# Altium footprint library Connector_PinHeader_1.27mm.PcbLib: 278 footprints (part 8 of 18)
Each footprint in its own frame and in the unit in brackets; x right, y up, seen from the top. Pads: shape width x height; smd on the part's side, far side on the other; paste and mask are expansions set on the pad; w line width, h text height; cw(c..) or ccw(c..) is an arc to the next point about the centre after c.
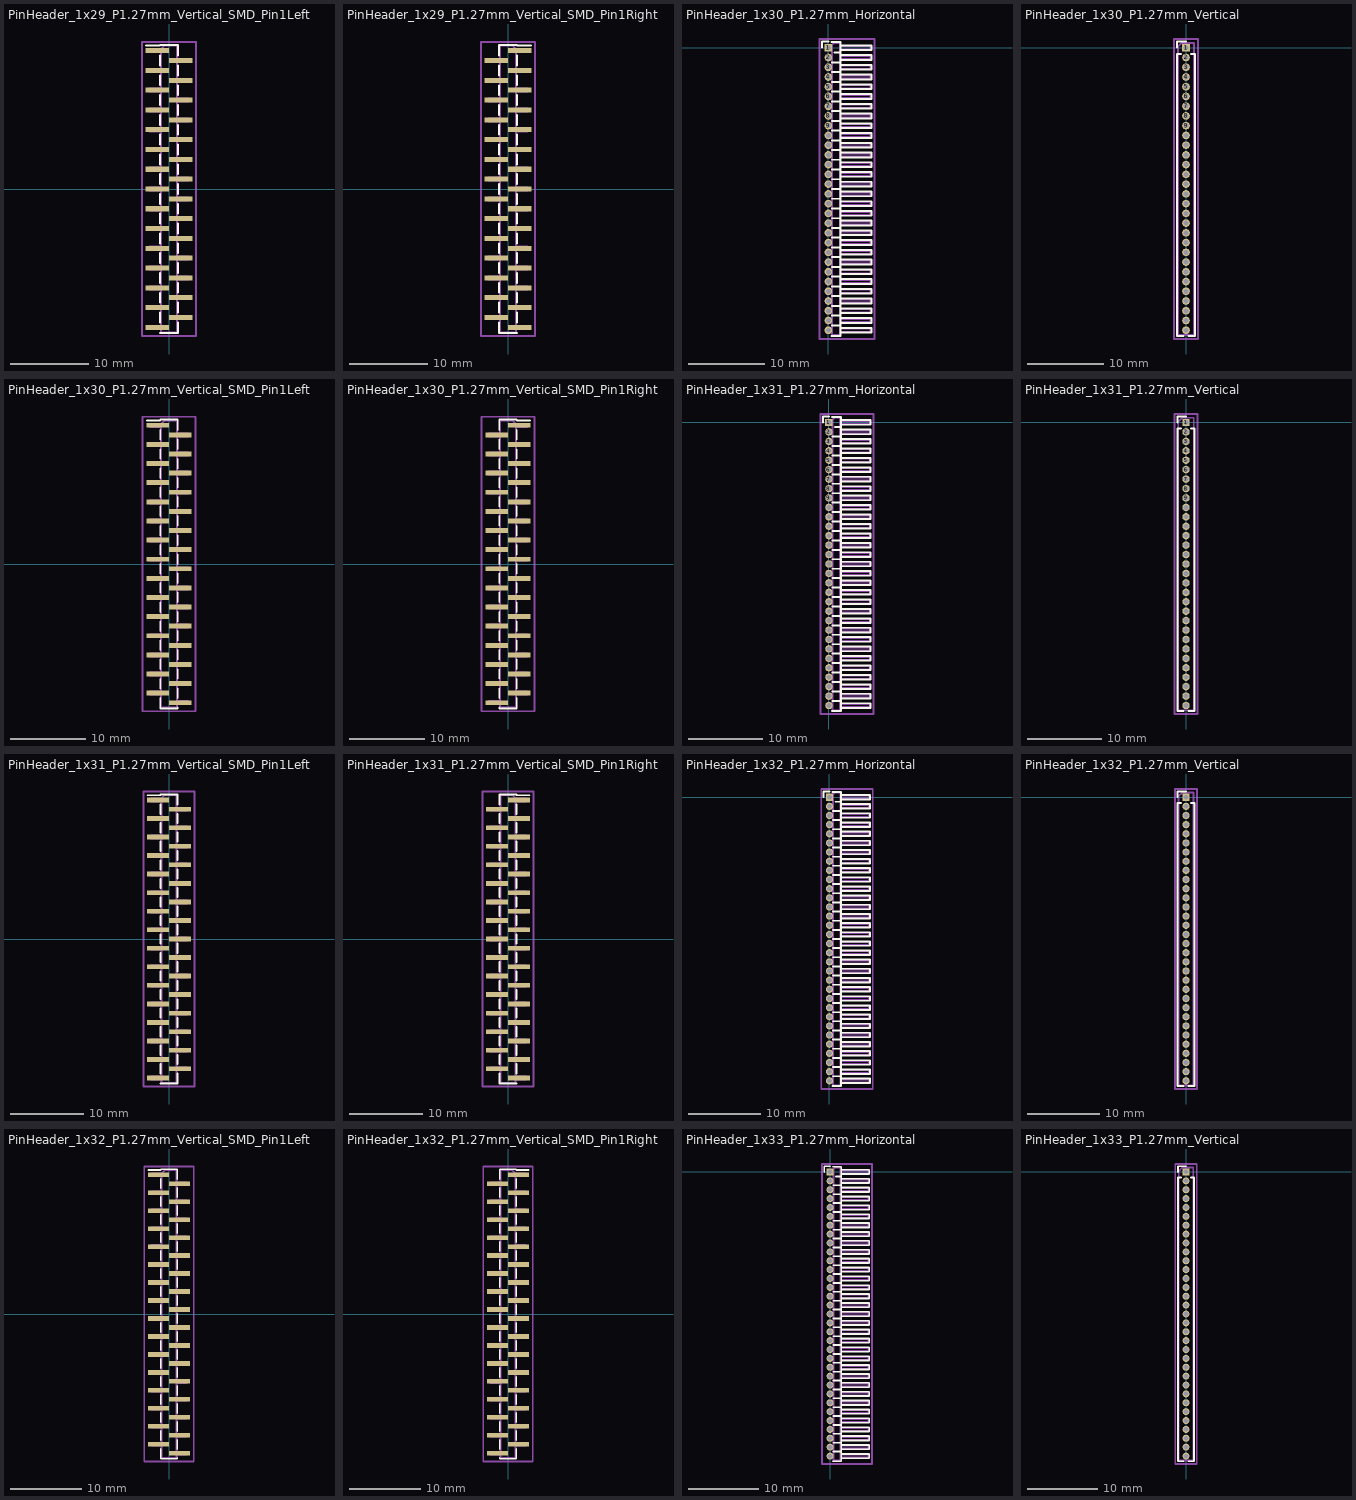
[diagram p7: the footprints below, top view; thin cyan lines are the x and y axes]

## PinHeader_1x29_P1.27mm_Vertical_SMD_Pin1Left [mm]
pads (29):
  rect 3x0.65 smd: 1(-1.5,17.78) 2(1.5,16.51) 3(-1.5,15.24) 4(1.5,13.97) 5(-1.5,12.7) 6(1.5,11.43) 7(-1.5,10.16) 8(1.5,8.89) 9(-1.5,7.62) 10(1.5,6.35) 11(-1.5,5.08) 12(1.5,3.81) 13(-1.5,2.54) 14(1.5,1.27) 15(-1.5,0) 16(1.5,-1.27) 17(-1.5,-2.54) 18(1.5,-3.81) 19(-1.5,-5.08) 20(1.5,-6.35) 21(-1.5,-7.62) 22(1.5,-8.89) 23(-1.5,-10.16) 24(1.5,-11.43) 25(-1.5,-12.7) 26(1.5,-13.97) 27(-1.5,-15.24) 28(1.5,-16.51) 29(-1.5,-17.78)
F.SilkS:
  lines w0.254: -2.94,18.415 -1.16,18.415 -1.16,18.525 1.16,18.525 ; -1.16,-18.525 1.16,-18.525 ; -1.16,-17.145 -1.16,-15.875 ; -1.16,-14.605 -1.16,-13.335 ; -1.16,-12.065 -1.16,-10.795 ; -1.16,-9.525 -1.16,-8.255 ; -1.16,-6.985 -1.16,-5.715 ; -1.16,-4.445 -1.16,-3.175 ; -1.16,-1.905 -1.16,-0.635 ; -1.16,0.635 -1.16,1.905 ; -1.16,3.175 -1.16,4.445 ; -1.16,5.715 -1.16,6.985 ; -1.16,8.255 -1.16,9.525 ; -1.16,10.795 -1.16,12.065 ; -1.16,13.335 -1.16,14.605 ; -1.16,15.875 -1.16,17.145 ; 1.16,-18.415 1.16,-18.525 ; 1.16,-17.145 1.16,-18.525 ; 1.16,-15.875 1.16,-14.605 ; 1.16,-13.335 1.16,-12.065 ; 1.16,-10.795 1.16,-9.525 ; 1.16,-8.255 1.16,-6.985 ; 1.16,-5.715 1.16,-4.445 ; 1.16,-3.175 1.16,-1.905 ; 1.16,-0.635 1.16,0.635 ; 1.16,1.905 1.16,3.175 ; 1.16,4.445 1.16,5.715 ; 1.16,6.985 1.16,8.255 ; 1.16,9.525 1.16,10.795 ; 1.16,12.065 1.16,13.335 ; 1.16,14.605 1.16,15.875 ; 1.16,17.145 1.16,18.415
Top Assembly:
  lines w0.254: -1.05,-17.98 -2.5,-17.98 -2.5,-17.58 -1.05,-17.58 ; -1.05,-15.44 -2.5,-15.44 -2.5,-15.04 -1.05,-15.04 ; -1.05,-12.9 -2.5,-12.9 -2.5,-12.5 -1.05,-12.5 ; -1.05,-10.36 -2.5,-10.36 -2.5,-9.96 -1.05,-9.96 ; -1.05,-7.82 -2.5,-7.82 -2.5,-7.42 -1.05,-7.42 ; -1.05,-5.28 -2.5,-5.28 -2.5,-4.88 -1.05,-4.88 ; -1.05,-2.74 -2.5,-2.74 -2.5,-2.34 -1.05,-2.34 ; -1.05,-0.2 -2.5,-0.2 -2.5,0.2 -1.05,0.2 ; -1.05,2.34 -2.5,2.34 -2.5,2.74 -1.05,2.74 ; -1.05,4.88 -2.5,4.88 -2.5,5.28 -1.05,5.28 ; -1.05,7.42 -2.5,7.42 -2.5,7.82 -1.05,7.82 ; -1.05,9.96 -2.5,9.96 -2.5,10.36 -1.05,10.36 ; -1.05,12.5 -2.5,12.5 -2.5,12.9 -1.05,12.9 ; -1.05,15.04 -2.5,15.04 -2.5,15.44 -1.05,15.44 ; -1.05,17.58 -2.5,17.58 -2.5,17.98 -1.05,17.98 ; 1.05,-16.71 2.5,-16.71 2.5,-16.31 1.05,-16.31 ; 1.05,-14.17 2.5,-14.17 2.5,-13.77 1.05,-13.77 ; 1.05,-11.63 2.5,-11.63 2.5,-11.23 1.05,-11.23 ; 1.05,-9.09 2.5,-9.09 2.5,-8.69 1.05,-8.69 ; 1.05,-6.55 2.5,-6.55 2.5,-6.15 1.05,-6.15 ; 1.05,-4.01 2.5,-4.01 2.5,-3.61 1.05,-3.61 ; 1.05,-1.47 2.5,-1.47 2.5,-1.07 1.05,-1.07 ; 1.05,1.07 2.5,1.07 2.5,1.47 1.05,1.47 ; 1.05,3.61 2.5,3.61 2.5,4.01 1.05,4.01 ; 1.05,6.15 2.5,6.15 2.5,6.55 1.05,6.55 ; 1.05,8.69 2.5,8.69 2.5,9.09 1.05,9.09 ; 1.05,11.23 2.5,11.23 2.5,11.63 1.05,11.63 ; 1.05,13.77 2.5,13.77 2.5,14.17 1.05,14.17 ; 1.05,16.31 2.5,16.31 2.5,16.71 1.05,16.71 ; -1.05,17.98 -1.05,-18.415 1.05,-18.415 1.05,18.415 -0.615,18.415 -1.05,17.98
  text "'.Designator'" at 0.84,-4.047 h1
Top Courtyard:
  lines w0.254: -3.5,-18.92 3.5,-18.92 3.5,18.92 -3.5,18.92 -3.5,-18.92
Top Designator:
  text ".Designator" at -7.618,-0.508 h1.52

## PinHeader_1x29_P1.27mm_Vertical_SMD_Pin1Right [mm]
pads (29):
  rect 3x0.65 smd: 1(1.5,17.78) 2(-1.5,16.51) 3(1.5,15.24) 4(-1.5,13.97) 5(1.5,12.7) 6(-1.5,11.43) 7(1.5,10.16) 8(-1.5,8.89) 9(1.5,7.62) 10(-1.5,6.35) 11(1.5,5.08) 12(-1.5,3.81) 13(1.5,2.54) 14(-1.5,1.27) 15(1.5,0) 16(-1.5,-1.27) 17(1.5,-2.54) 18(-1.5,-3.81) 19(1.5,-5.08) 20(-1.5,-6.35) 21(1.5,-7.62) 22(-1.5,-8.89) 23(1.5,-10.16) 24(-1.5,-11.43) 25(1.5,-12.7) 26(-1.5,-13.97) 27(1.5,-15.24) 28(-1.5,-16.51) 29(1.5,-17.78)
F.SilkS:
  lines w0.254: -1.16,-18.415 -1.16,-18.525 ; -1.16,-17.145 -1.16,-18.525 ; -1.16,-15.875 -1.16,-14.605 ; -1.16,-13.335 -1.16,-12.065 ; -1.16,-10.795 -1.16,-9.525 ; -1.16,-8.255 -1.16,-6.985 ; -1.16,-5.715 -1.16,-4.445 ; -1.16,-3.175 -1.16,-1.905 ; -1.16,-0.635 -1.16,0.635 ; -1.16,1.905 -1.16,3.175 ; -1.16,4.445 -1.16,5.715 ; -1.16,6.985 -1.16,8.255 ; -1.16,9.525 -1.16,10.795 ; -1.16,12.065 -1.16,13.335 ; -1.16,14.605 -1.16,15.875 ; -1.16,18.525 1.16,18.525 1.16,18.415 2.94,18.415 ; 1.16,-18.525 -1.16,-18.525 ; 1.16,-17.145 1.16,-15.875 ; 1.16,-14.605 1.16,-13.335 ; 1.16,-12.065 1.16,-10.795 ; 1.16,-9.525 1.16,-8.255 ; 1.16,-6.985 1.16,-5.715 ; 1.16,-4.445 1.16,-3.175 ; 1.16,-1.905 1.16,-0.635 ; 1.16,0.635 1.16,1.905 ; 1.16,3.175 1.16,4.445 ; 1.16,5.715 1.16,6.985 ; 1.16,8.255 1.16,9.525 ; 1.16,10.795 1.16,12.065 ; 1.16,13.335 1.16,14.605 ; 1.16,15.875 1.16,17.145 ; -1.16,17.145 -1.16,18.415 -1.16,17.145
Top Assembly:
  lines w0.254: -1.05,-16.71 -2.5,-16.71 -2.5,-16.31 -1.05,-16.31 ; -1.05,-14.17 -2.5,-14.17 -2.5,-13.77 -1.05,-13.77 ; -1.05,-11.63 -2.5,-11.63 -2.5,-11.23 -1.05,-11.23 ; -1.05,-9.09 -2.5,-9.09 -2.5,-8.69 -1.05,-8.69 ; -1.05,-6.55 -2.5,-6.55 -2.5,-6.15 -1.05,-6.15 ; -1.05,-4.01 -2.5,-4.01 -2.5,-3.61 -1.05,-3.61 ; -1.05,-1.47 -2.5,-1.47 -2.5,-1.07 -1.05,-1.07 ; -1.05,1.07 -2.5,1.07 -2.5,1.47 -1.05,1.47 ; -1.05,3.61 -2.5,3.61 -2.5,4.01 -1.05,4.01 ; -1.05,6.15 -2.5,6.15 -2.5,6.55 -1.05,6.55 ; -1.05,8.69 -2.5,8.69 -2.5,9.09 -1.05,9.09 ; -1.05,11.23 -2.5,11.23 -2.5,11.63 -1.05,11.63 ; -1.05,13.77 -2.5,13.77 -2.5,14.17 -1.05,14.17 ; -1.05,16.31 -2.5,16.31 -2.5,16.71 -1.05,16.71 ; 1.05,-17.98 2.5,-17.98 2.5,-17.58 1.05,-17.58 ; 1.05,-15.44 2.5,-15.44 2.5,-15.04 1.05,-15.04 ; 1.05,-12.9 2.5,-12.9 2.5,-12.5 1.05,-12.5 ; 1.05,-10.36 2.5,-10.36 2.5,-9.96 1.05,-9.96 ; 1.05,-7.82 2.5,-7.82 2.5,-7.42 1.05,-7.42 ; 1.05,-5.28 2.5,-5.28 2.5,-4.88 1.05,-4.88 ; 1.05,-2.74 2.5,-2.74 2.5,-2.34 1.05,-2.34 ; 1.05,-0.2 2.5,-0.2 2.5,0.2 1.05,0.2 ; 1.05,2.34 2.5,2.34 2.5,2.74 1.05,2.74 ; 1.05,4.88 2.5,4.88 2.5,5.28 1.05,5.28 ; 1.05,7.42 2.5,7.42 2.5,7.82 1.05,7.82 ; 1.05,9.96 2.5,9.96 2.5,10.36 1.05,10.36 ; 1.05,12.5 2.5,12.5 2.5,12.9 1.05,12.9 ; 1.05,15.04 2.5,15.04 2.5,15.44 1.05,15.44 ; 1.05,17.58 2.5,17.58 2.5,17.98 1.05,17.98 ; 1.05,17.98 1.05,-18.415 -1.05,-18.415 -1.05,18.415 0.615,18.415 1.05,17.98
  text "'.Designator'" at 0.84,-4.047 h1
Top Courtyard:
  lines w0.254: -3.5,-18.92 3.5,-18.92 3.5,18.92 -3.5,18.92 -3.5,-18.92
Top Designator:
  text ".Designator" at -7.618,-0.508 h1.52

## PinHeader_1x30_P1.27mm_Horizontal [mm]
pads (30):
  rect 1x1 hole 0.65: 1(0,0)
  round 1 hole 0.65: 2(0,-1.27) 3(0,-2.54) 4(0,-3.81) 5(0,-5.08) 6(0,-6.35) 7(0,-7.62) 8(0,-8.89) 9(0,-10.16) 10(0,-11.43) 11(0,-12.7) 12(0,-13.97) 13(0,-15.24) 14(0,-16.51) 15(0,-17.78) 16(0,-19.05) 17(0,-20.32) 18(0,-21.59) 19(0,-22.86) 20(0,-24.13) 21(0,-25.4) 22(0,-26.67) 23(0,-27.94) 24(0,-29.21) 25(0,-30.48) 26(0,-31.75) 27(0,-33.02) 28(0,-34.29) 29(0,-35.56) 30(0,-36.83)
F.SilkS:
  lines w0.254: -0.81,0 -0.81,0.81 0,0.81 ; 0.39,-37.575 1.61,-37.575 1.61,0.745 0.39,0.745 ; 0.503,-36.195 1.61,-36.195 ; 0.503,-34.925 1.61,-34.925 ; 0.503,-33.655 1.61,-33.655 ; 0.503,-32.385 1.61,-32.385 ; 0.503,-31.115 1.61,-31.115 ; 0.503,-29.845 1.61,-29.845 ; 0.503,-28.575 1.61,-28.575 ; 0.503,-27.305 1.61,-27.305 ; 0.503,-26.035 1.61,-26.035 ; 0.503,-24.765 1.61,-24.765 ; 0.503,-23.495 1.61,-23.495 ; 0.503,-22.225 1.61,-22.225 ; 0.503,-20.955 1.61,-20.955 ; 0.503,-19.685 1.61,-19.685 ; 0.503,-18.415 1.61,-18.415 ; 0.503,-17.145 1.61,-17.145 ; 0.503,-15.875 1.61,-15.875 ; 0.503,-14.605 1.61,-14.605 ; 0.503,-13.335 1.61,-13.335 ; 0.503,-12.065 1.61,-12.065 ; 0.503,-10.795 1.61,-10.795 ; 0.503,-9.525 1.61,-9.525 ; 0.503,-8.255 1.61,-8.255 ; 0.503,-6.985 1.61,-6.985 ; 0.503,-5.715 1.61,-5.715 ; 0.503,-4.445 1.61,-4.445 ; 0.503,-3.175 1.61,-3.175 ; 0.503,-1.905 1.61,-1.905 ; 0.81,-0.635 1.61,-0.635 ; 1.61,-37.14 5.61,-37.14 5.61,-36.52 1.61,-36.52 ; 1.61,-35.87 5.61,-35.87 5.61,-35.25 1.61,-35.25 ; 1.61,-34.6 5.61,-34.6 5.61,-33.98 1.61,-33.98 ; 1.61,-33.33 5.61,-33.33 5.61,-32.71 1.61,-32.71 ; 1.61,-32.06 5.61,-32.06 5.61,-31.44 1.61,-31.44 ; 1.61,-30.79 5.61,-30.79 5.61,-30.17 1.61,-30.17 ; 1.61,-29.52 5.61,-29.52 5.61,-28.9 1.61,-28.9 ; 1.61,-28.25 5.61,-28.25 5.61,-27.63 1.61,-27.63 ; 1.61,-26.98 5.61,-26.98 5.61,-26.36 1.61,-26.36 ; 1.61,-25.71 5.61,-25.71 5.61,-25.09 1.61,-25.09 ; 1.61,-24.44 5.61,-24.44 5.61,-23.82 1.61,-23.82 ; 1.61,-23.17 5.61,-23.17 5.61,-22.55 1.61,-22.55 ; 1.61,-21.9 5.61,-21.9 5.61,-21.28 1.61,-21.28 ; 1.61,-20.63 5.61,-20.63 5.61,-20.01 1.61,-20.01 ; 1.61,-19.36 5.61,-19.36 5.61,-18.74 1.61,-18.74 ; 1.61,-18.09 5.61,-18.09 5.61,-17.47 1.61,-17.47 ; 1.61,-16.82 5.61,-16.82 5.61,-16.2 1.61,-16.2 ; 1.61,-15.55 5.61,-15.55 5.61,-14.93 1.61,-14.93 ; 1.61,-14.28 5.61,-14.28 5.61,-13.66 1.61,-13.66 ; 1.61,-13.01 5.61,-13.01 5.61,-12.39 1.61,-12.39 ; 1.61,-11.74 5.61,-11.74 5.61,-11.12 1.61,-11.12 ; 1.61,-10.47 5.61,-10.47 5.61,-9.85 1.61,-9.85 ; 1.61,-9.2 5.61,-9.2 5.61,-8.58 1.61,-8.58 ; 1.61,-7.93 5.61,-7.93 5.61,-7.31 1.61,-7.31 ; 1.61,-6.66 5.61,-6.66 5.61,-6.04 1.61,-6.04 ; 1.61,-5.39 5.61,-5.39 5.61,-4.77 1.61,-4.77 ; 1.61,-4.12 5.61,-4.12 5.61,-3.5 1.61,-3.5 ; 1.61,-2.85 5.61,-2.85 5.61,-2.23 1.61,-2.23 ; 1.61,-1.58 5.61,-1.58 5.61,-0.96 1.61,-0.96 ; 1.61,-0.31 5.61,-0.31 5.61,0.31 1.61,0.31 1.61,-0.31
Top Assembly:
  drawing of 185 lines, arcs and shapes, not listed
  text "'.Designator'" at 1.504,-20.843 h0.6
Top Courtyard:
  lines w0.254: -1.14,-37.97 6,-37.97 6,1.14 -1.14,1.14 -1.14,-37.97
Top Designator:
  text ".Designator" at -5.188,-18.923 h1.52

## PinHeader_1x30_P1.27mm_Vertical [mm]
pads (30):
  rect 1x1 hole 0.65: 1(0,0)
  round 1 hole 0.65: 2(0,-1.27) 3(0,-2.54) 4(0,-3.81) 5(0,-5.08) 6(0,-6.35) 7(0,-7.62) 8(0,-8.89) 9(0,-10.16) 10(0,-11.43) 11(0,-12.7) 12(0,-13.97) 13(0,-15.24) 14(0,-16.51) 15(0,-17.78) 16(0,-19.05) 17(0,-20.32) 18(0,-21.59) 19(0,-22.86) 20(0,-24.13) 21(0,-25.4) 22(0,-26.67) 23(0,-27.94) 24(0,-29.21) 25(0,-30.48) 26(0,-31.75) 27(0,-33.02) 28(0,-34.29) 29(0,-35.56) 30(0,-36.83)
F.SilkS:
  lines w0.254: -1.16,0 -1.16,0.81 0,0.81 ; -0.667,-0.81 -1.16,-0.81 -1.16,-37.575 -0.318,-37.575 ; 0.318,-37.575 1.16,-37.575 1.16,-0.81 0.667,-0.81
Top Assembly:
  lines w0.254: -1.05,-37.465 1.05,-37.465 1.05,0.635 -0.525,0.635 -1.05,0.11 -1.05,-37.465
  text "'.Designator'" at 0.84,-22.462 h1
Top Courtyard:
  lines w0.254: -1.55,-37.97 1.55,-37.97 1.55,1.14 -1.55,1.14 -1.55,-37.97
Top Designator:
  text ".Designator" at -7.618,-18.923 h1.52

## PinHeader_1x30_P1.27mm_Vertical_SMD_Pin1Left [mm]
pads (30):
  rect 3x0.65 smd: 1(-1.5,18.415) 2(1.5,17.145) 3(-1.5,15.875) 4(1.5,14.605) 5(-1.5,13.335) 6(1.5,12.065) 7(-1.5,10.795) 8(1.5,9.525) 9(-1.5,8.255) 10(1.5,6.985) 11(-1.5,5.715) 12(1.5,4.445) 13(-1.5,3.175) 14(1.5,1.905) 15(-1.5,0.635) 16(1.5,-0.635) 17(-1.5,-1.905) 18(1.5,-3.175) 19(-1.5,-4.445) 20(1.5,-5.715) 21(-1.5,-6.985) 22(1.5,-8.255) 23(-1.5,-9.525) 24(1.5,-10.795) 25(-1.5,-12.065) 26(1.5,-13.335) 27(-1.5,-14.605) 28(1.5,-15.875) 29(-1.5,-17.145) 30(1.5,-18.415)
F.SilkS:
  lines w0.254: -2.94,19.05 -1.16,19.05 -1.16,19.16 1.16,19.16 ; -1.16,-17.78 -1.16,-19.16 1.16,-19.16 1.16,-19.05 ; -1.16,-16.51 -1.16,-15.24 ; -1.16,-13.97 -1.16,-12.7 ; -1.16,-11.43 -1.16,-10.16 ; -1.16,-8.89 -1.16,-7.62 ; -1.16,-6.35 -1.16,-5.08 ; -1.16,-3.81 -1.16,-2.54 ; -1.16,-1.27 -1.16,0 ; -1.16,1.27 -1.16,2.54 ; -1.16,3.81 -1.16,5.08 ; -1.16,6.35 -1.16,7.62 ; -1.16,8.89 -1.16,10.16 ; -1.16,11.43 -1.16,12.7 ; -1.16,13.97 -1.16,15.24 ; -1.16,16.51 -1.16,17.78 ; 1.16,-17.78 1.16,-16.51 ; 1.16,-15.24 1.16,-13.97 ; 1.16,-12.7 1.16,-11.43 ; 1.16,-10.16 1.16,-8.89 ; 1.16,-7.62 1.16,-6.35 ; 1.16,-5.08 1.16,-3.81 ; 1.16,-2.54 1.16,-1.27 ; 1.16,0 1.16,1.27 ; 1.16,2.54 1.16,3.81 ; 1.16,5.08 1.16,6.35 ; 1.16,7.62 1.16,8.89 ; 1.16,10.16 1.16,11.43 ; 1.16,12.7 1.16,13.97 ; 1.16,15.24 1.16,16.51 ; 1.16,17.78 1.16,19.05
Top Assembly:
  lines w0.254: -1.05,-17.345 -2.5,-17.345 -2.5,-16.945 -1.05,-16.945 ; -1.05,-14.805 -2.5,-14.805 -2.5,-14.405 -1.05,-14.405 ; -1.05,-12.265 -2.5,-12.265 -2.5,-11.865 -1.05,-11.865 ; -1.05,-9.725 -2.5,-9.725 -2.5,-9.325 -1.05,-9.325 ; -1.05,-7.185 -2.5,-7.185 -2.5,-6.785 -1.05,-6.785 ; -1.05,-4.645 -2.5,-4.645 -2.5,-4.245 -1.05,-4.245 ; -1.05,-2.105 -2.5,-2.105 -2.5,-1.705 -1.05,-1.705 ; -1.05,0.435 -2.5,0.435 -2.5,0.835 -1.05,0.835 ; -1.05,2.975 -2.5,2.975 -2.5,3.375 -1.05,3.375 ; -1.05,5.515 -2.5,5.515 -2.5,5.915 -1.05,5.915 ; -1.05,8.055 -2.5,8.055 -2.5,8.455 -1.05,8.455 ; -1.05,10.595 -2.5,10.595 -2.5,10.995 -1.05,10.995 ; -1.05,13.135 -2.5,13.135 -2.5,13.535 -1.05,13.535 ; -1.05,15.675 -2.5,15.675 -2.5,16.075 -1.05,16.075 ; -1.05,18.215 -2.5,18.215 -2.5,18.615 -1.05,18.615 ; 1.05,-18.615 2.5,-18.615 2.5,-18.215 1.05,-18.215 ; 1.05,-16.075 2.5,-16.075 2.5,-15.675 1.05,-15.675 ; 1.05,-13.535 2.5,-13.535 2.5,-13.135 1.05,-13.135 ; 1.05,-10.995 2.5,-10.995 2.5,-10.595 1.05,-10.595 ; 1.05,-8.455 2.5,-8.455 2.5,-8.055 1.05,-8.055 ; 1.05,-5.915 2.5,-5.915 2.5,-5.515 1.05,-5.515 ; 1.05,-3.375 2.5,-3.375 2.5,-2.975 1.05,-2.975 ; 1.05,-0.835 2.5,-0.835 2.5,-0.435 1.05,-0.435 ; 1.05,1.705 2.5,1.705 2.5,2.105 1.05,2.105 ; 1.05,4.245 2.5,4.245 2.5,4.645 1.05,4.645 ; 1.05,6.785 2.5,6.785 2.5,7.185 1.05,7.185 ; 1.05,9.325 2.5,9.325 2.5,9.725 1.05,9.725 ; 1.05,11.865 2.5,11.865 2.5,12.265 1.05,12.265 ; 1.05,14.405 2.5,14.405 2.5,14.805 1.05,14.805 ; 1.05,16.945 2.5,16.945 2.5,17.345 1.05,17.345 ; -1.05,18.615 -1.05,-19.05 1.05,-19.05 1.05,19.05 -0.615,19.05 -1.05,18.615
  text "'.Designator'" at 0.84,-4.047 h1
Top Courtyard:
  lines w0.254: -3.5,-19.55 3.5,-19.55 3.5,19.55 -3.5,19.55 -3.5,-19.55
Top Designator:
  text ".Designator" at -7.618,-0.508 h1.52

## PinHeader_1x30_P1.27mm_Vertical_SMD_Pin1Right [mm]
pads (30):
  rect 3x0.65 smd: 1(1.5,18.415) 2(-1.5,17.145) 3(1.5,15.875) 4(-1.5,14.605) 5(1.5,13.335) 6(-1.5,12.065) 7(1.5,10.795) 8(-1.5,9.525) 9(1.5,8.255) 10(-1.5,6.985) 11(1.5,5.715) 12(-1.5,4.445) 13(1.5,3.175) 14(-1.5,1.905) 15(1.5,0.635) 16(-1.5,-0.635) 17(1.5,-1.905) 18(-1.5,-3.175) 19(1.5,-4.445) 20(-1.5,-5.715) 21(1.5,-6.985) 22(-1.5,-8.255) 23(1.5,-9.525) 24(-1.5,-10.795) 25(1.5,-12.065) 26(-1.5,-13.335) 27(1.5,-14.605) 28(-1.5,-15.875) 29(1.5,-17.145) 30(-1.5,-18.415)
F.SilkS:
  lines w0.254: -1.16,-19.05 -1.16,-19.16 1.16,-19.16 1.16,-17.78 ; -1.16,-17.78 -1.16,-16.51 ; -1.16,-15.24 -1.16,-13.97 ; -1.16,-12.7 -1.16,-11.43 ; -1.16,-10.16 -1.16,-8.89 ; -1.16,-7.62 -1.16,-6.35 ; -1.16,-5.08 -1.16,-3.81 ; -1.16,-2.54 -1.16,-1.27 ; -1.16,0 -1.16,1.27 ; -1.16,2.54 -1.16,3.81 ; -1.16,5.08 -1.16,6.35 ; -1.16,7.62 -1.16,8.89 ; -1.16,10.16 -1.16,11.43 ; -1.16,12.7 -1.16,13.97 ; -1.16,15.24 -1.16,16.51 ; -1.16,19.16 1.16,19.16 1.16,19.05 2.94,19.05 ; 1.16,-16.51 1.16,-15.24 ; 1.16,-13.97 1.16,-12.7 ; 1.16,-11.43 1.16,-10.16 ; 1.16,-8.89 1.16,-7.62 ; 1.16,-6.35 1.16,-5.08 ; 1.16,-3.81 1.16,-2.54 ; 1.16,-1.27 1.16,0 ; 1.16,1.27 1.16,2.54 ; 1.16,3.81 1.16,5.08 ; 1.16,6.35 1.16,7.62 ; 1.16,8.89 1.16,10.16 ; 1.16,11.43 1.16,12.7 ; 1.16,13.97 1.16,15.24 ; 1.16,16.51 1.16,17.78 ; -1.16,17.78 -1.16,19.05 -1.16,17.78
Top Assembly:
  lines w0.254: -1.05,-18.615 -2.5,-18.615 -2.5,-18.215 -1.05,-18.215 ; -1.05,-16.075 -2.5,-16.075 -2.5,-15.675 -1.05,-15.675 ; -1.05,-13.535 -2.5,-13.535 -2.5,-13.135 -1.05,-13.135 ; -1.05,-10.995 -2.5,-10.995 -2.5,-10.595 -1.05,-10.595 ; -1.05,-8.455 -2.5,-8.455 -2.5,-8.055 -1.05,-8.055 ; -1.05,-5.915 -2.5,-5.915 -2.5,-5.515 -1.05,-5.515 ; -1.05,-3.375 -2.5,-3.375 -2.5,-2.975 -1.05,-2.975 ; -1.05,-0.835 -2.5,-0.835 -2.5,-0.435 -1.05,-0.435 ; -1.05,1.705 -2.5,1.705 -2.5,2.105 -1.05,2.105 ; -1.05,4.245 -2.5,4.245 -2.5,4.645 -1.05,4.645 ; -1.05,6.785 -2.5,6.785 -2.5,7.185 -1.05,7.185 ; -1.05,9.325 -2.5,9.325 -2.5,9.725 -1.05,9.725 ; -1.05,11.865 -2.5,11.865 -2.5,12.265 -1.05,12.265 ; -1.05,14.405 -2.5,14.405 -2.5,14.805 -1.05,14.805 ; -1.05,16.945 -2.5,16.945 -2.5,17.345 -1.05,17.345 ; 1.05,-17.345 2.5,-17.345 2.5,-16.945 1.05,-16.945 ; 1.05,-14.805 2.5,-14.805 2.5,-14.405 1.05,-14.405 ; 1.05,-12.265 2.5,-12.265 2.5,-11.865 1.05,-11.865 ; 1.05,-9.725 2.5,-9.725 2.5,-9.325 1.05,-9.325 ; 1.05,-7.185 2.5,-7.185 2.5,-6.785 1.05,-6.785 ; 1.05,-4.645 2.5,-4.645 2.5,-4.245 1.05,-4.245 ; 1.05,-2.105 2.5,-2.105 2.5,-1.705 1.05,-1.705 ; 1.05,0.435 2.5,0.435 2.5,0.835 1.05,0.835 ; 1.05,2.975 2.5,2.975 2.5,3.375 1.05,3.375 ; 1.05,5.515 2.5,5.515 2.5,5.915 1.05,5.915 ; 1.05,8.055 2.5,8.055 2.5,8.455 1.05,8.455 ; 1.05,10.595 2.5,10.595 2.5,10.995 1.05,10.995 ; 1.05,13.135 2.5,13.135 2.5,13.535 1.05,13.535 ; 1.05,15.675 2.5,15.675 2.5,16.075 1.05,16.075 ; 1.05,18.215 2.5,18.215 2.5,18.615 1.05,18.615 ; 1.05,18.615 1.05,-19.05 -1.05,-19.05 -1.05,19.05 0.615,19.05 1.05,18.615
  text "'.Designator'" at 0.84,-4.047 h1
Top Courtyard:
  lines w0.254: -3.5,-19.55 3.5,-19.55 3.5,19.55 -3.5,19.55 -3.5,-19.55
Top Designator:
  text ".Designator" at -7.618,-0.508 h1.52

## PinHeader_1x31_P1.27mm_Horizontal [mm]
pads (31):
  rect 1x1 hole 0.65: 1(0,0)
  round 1 hole 0.65: 2(0,-1.27) 3(0,-2.54) 4(0,-3.81) 5(0,-5.08) 6(0,-6.35) 7(0,-7.62) 8(0,-8.89) 9(0,-10.16) 10(0,-11.43) 11(0,-12.7) 12(0,-13.97) 13(0,-15.24) 14(0,-16.51) 15(0,-17.78) 16(0,-19.05) 17(0,-20.32) 18(0,-21.59) 19(0,-22.86) 20(0,-24.13) 21(0,-25.4) 22(0,-26.67) 23(0,-27.94) 24(0,-29.21) 25(0,-30.48) 26(0,-31.75) 27(0,-33.02) 28(0,-34.29) 29(0,-35.56) 30(0,-36.83) 31(0,-38.1)
F.SilkS:
  lines w0.254: -0.81,0 -0.81,0.81 0,0.81 ; 0.39,-38.845 1.61,-38.845 1.61,0.745 0.39,0.745 ; 0.503,-37.465 1.61,-37.465 ; 0.503,-36.195 1.61,-36.195 ; 0.503,-34.925 1.61,-34.925 ; 0.503,-33.655 1.61,-33.655 ; 0.503,-32.385 1.61,-32.385 ; 0.503,-31.115 1.61,-31.115 ; 0.503,-29.845 1.61,-29.845 ; 0.503,-28.575 1.61,-28.575 ; 0.503,-27.305 1.61,-27.305 ; 0.503,-26.035 1.61,-26.035 ; 0.503,-24.765 1.61,-24.765 ; 0.503,-23.495 1.61,-23.495 ; 0.503,-22.225 1.61,-22.225 ; 0.503,-20.955 1.61,-20.955 ; 0.503,-19.685 1.61,-19.685 ; 0.503,-18.415 1.61,-18.415 ; 0.503,-17.145 1.61,-17.145 ; 0.503,-15.875 1.61,-15.875 ; 0.503,-14.605 1.61,-14.605 ; 0.503,-13.335 1.61,-13.335 ; 0.503,-12.065 1.61,-12.065 ; 0.503,-10.795 1.61,-10.795 ; 0.503,-9.525 1.61,-9.525 ; 0.503,-8.255 1.61,-8.255 ; 0.503,-6.985 1.61,-6.985 ; 0.503,-5.715 1.61,-5.715 ; 0.503,-4.445 1.61,-4.445 ; 0.503,-3.175 1.61,-3.175 ; 0.503,-1.905 1.61,-1.905 ; 0.81,-0.635 1.61,-0.635 ; 1.61,-38.41 5.61,-38.41 5.61,-37.79 1.61,-37.79 ; 1.61,-37.14 5.61,-37.14 5.61,-36.52 1.61,-36.52 ; 1.61,-35.87 5.61,-35.87 5.61,-35.25 1.61,-35.25 ; 1.61,-34.6 5.61,-34.6 5.61,-33.98 1.61,-33.98 ; 1.61,-33.33 5.61,-33.33 5.61,-32.71 1.61,-32.71 ; 1.61,-32.06 5.61,-32.06 5.61,-31.44 1.61,-31.44 ; 1.61,-30.79 5.61,-30.79 5.61,-30.17 1.61,-30.17 ; 1.61,-29.52 5.61,-29.52 5.61,-28.9 1.61,-28.9 ; 1.61,-28.25 5.61,-28.25 5.61,-27.63 1.61,-27.63 ; 1.61,-26.98 5.61,-26.98 5.61,-26.36 1.61,-26.36 ; 1.61,-25.71 5.61,-25.71 5.61,-25.09 1.61,-25.09 ; 1.61,-24.44 5.61,-24.44 5.61,-23.82 1.61,-23.82 ; 1.61,-23.17 5.61,-23.17 5.61,-22.55 1.61,-22.55 ; 1.61,-21.9 5.61,-21.9 5.61,-21.28 1.61,-21.28 ; 1.61,-20.63 5.61,-20.63 5.61,-20.01 1.61,-20.01 ; 1.61,-19.36 5.61,-19.36 5.61,-18.74 1.61,-18.74 ; 1.61,-18.09 5.61,-18.09 5.61,-17.47 1.61,-17.47 ; 1.61,-16.82 5.61,-16.82 5.61,-16.2 1.61,-16.2 ; 1.61,-15.55 5.61,-15.55 5.61,-14.93 1.61,-14.93 ; 1.61,-14.28 5.61,-14.28 5.61,-13.66 1.61,-13.66 ; 1.61,-13.01 5.61,-13.01 5.61,-12.39 1.61,-12.39 ; 1.61,-11.74 5.61,-11.74 5.61,-11.12 1.61,-11.12 ; 1.61,-10.47 5.61,-10.47 5.61,-9.85 1.61,-9.85 ; 1.61,-9.2 5.61,-9.2 5.61,-8.58 1.61,-8.58 ; 1.61,-7.93 5.61,-7.93 5.61,-7.31 1.61,-7.31 ; 1.61,-6.66 5.61,-6.66 5.61,-6.04 1.61,-6.04 ; 1.61,-5.39 5.61,-5.39 5.61,-4.77 1.61,-4.77 ; 1.61,-4.12 5.61,-4.12 5.61,-3.5 1.61,-3.5 ; 1.61,-2.85 5.61,-2.85 5.61,-2.23 1.61,-2.23 ; 1.61,-1.58 5.61,-1.58 5.61,-0.96 1.61,-0.96 ; 1.61,-0.31 5.61,-0.31 5.61,0.31 1.61,0.31 1.61,-0.31
Top Assembly:
  drawing of 191 lines, arcs and shapes, not listed
  text "'.Designator'" at 1.504,-21.478 h0.6
Top Courtyard:
  lines w0.254: -1.14,-39.24 6,-39.24 6,1.14 -1.14,1.14 -1.14,-39.24
Top Designator:
  text ".Designator" at -5.188,-19.558 h1.52

## PinHeader_1x31_P1.27mm_Vertical [mm]
pads (31):
  rect 1x1 hole 0.65: 1(0,0)
  round 1 hole 0.65: 2(0,-1.27) 3(0,-2.54) 4(0,-3.81) 5(0,-5.08) 6(0,-6.35) 7(0,-7.62) 8(0,-8.89) 9(0,-10.16) 10(0,-11.43) 11(0,-12.7) 12(0,-13.97) 13(0,-15.24) 14(0,-16.51) 15(0,-17.78) 16(0,-19.05) 17(0,-20.32) 18(0,-21.59) 19(0,-22.86) 20(0,-24.13) 21(0,-25.4) 22(0,-26.67) 23(0,-27.94) 24(0,-29.21) 25(0,-30.48) 26(0,-31.75) 27(0,-33.02) 28(0,-34.29) 29(0,-35.56) 30(0,-36.83) 31(0,-38.1)
F.SilkS:
  lines w0.254: -1.16,0 -1.16,0.81 0,0.81 ; -0.667,-0.81 -1.16,-0.81 -1.16,-38.845 -0.318,-38.845 ; 0.318,-38.845 1.16,-38.845 1.16,-0.81 0.667,-0.81
Top Assembly:
  lines w0.254: -1.05,-38.735 1.05,-38.735 1.05,0.635 -0.525,0.635 -1.05,0.11 -1.05,-38.735
  text "'.Designator'" at 0.84,-23.097 h1
Top Courtyard:
  lines w0.254: -1.55,-39.24 1.55,-39.24 1.55,1.14 -1.55,1.14 -1.55,-39.24
Top Designator:
  text ".Designator" at -7.618,-19.558 h1.52

## PinHeader_1x31_P1.27mm_Vertical_SMD_Pin1Left [mm]
pads (31):
  rect 3x0.65 smd: 1(-1.5,19.05) 2(1.5,17.78) 3(-1.5,16.51) 4(1.5,15.24) 5(-1.5,13.97) 6(1.5,12.7) 7(-1.5,11.43) 8(1.5,10.16) 9(-1.5,8.89) 10(1.5,7.62) 11(-1.5,6.35) 12(1.5,5.08) 13(-1.5,3.81) 14(1.5,2.54) 15(-1.5,1.27) 16(1.5,0) 17(-1.5,-1.27) 18(1.5,-2.54) 19(-1.5,-3.81) 20(1.5,-5.08) 21(-1.5,-6.35) 22(1.5,-7.62) 23(-1.5,-8.89) 24(1.5,-10.16) 25(-1.5,-11.43) 26(1.5,-12.7) 27(-1.5,-13.97) 28(1.5,-15.24) 29(-1.5,-16.51) 30(1.5,-17.78) 31(-1.5,-19.05)
F.SilkS:
  lines w0.254: -2.94,19.685 -1.16,19.685 -1.16,19.795 1.16,19.795 ; -1.16,-19.795 1.16,-19.795 ; -1.16,-18.415 -1.16,-17.145 ; -1.16,-15.875 -1.16,-14.605 ; -1.16,-13.335 -1.16,-12.065 ; -1.16,-10.795 -1.16,-9.525 ; -1.16,-8.255 -1.16,-6.985 ; -1.16,-5.715 -1.16,-4.445 ; -1.16,-3.175 -1.16,-1.905 ; -1.16,-0.635 -1.16,0.635 ; -1.16,1.905 -1.16,3.175 ; -1.16,4.445 -1.16,5.715 ; -1.16,6.985 -1.16,8.255 ; -1.16,9.525 -1.16,10.795 ; -1.16,12.065 -1.16,13.335 ; -1.16,14.605 -1.16,15.875 ; -1.16,17.145 -1.16,18.415 ; 1.16,-19.685 1.16,-19.795 ; 1.16,-18.415 1.16,-19.795 ; 1.16,-17.145 1.16,-15.875 ; 1.16,-14.605 1.16,-13.335 ; 1.16,-12.065 1.16,-10.795 ; 1.16,-9.525 1.16,-8.255 ; 1.16,-6.985 1.16,-5.715 ; 1.16,-4.445 1.16,-3.175 ; 1.16,-1.905 1.16,-0.635 ; 1.16,0.635 1.16,1.905 ; 1.16,3.175 1.16,4.445 ; 1.16,5.715 1.16,6.985 ; 1.16,8.255 1.16,9.525 ; 1.16,10.795 1.16,12.065 ; 1.16,13.335 1.16,14.605 ; 1.16,15.875 1.16,17.145 ; 1.16,18.415 1.16,19.685
Top Assembly:
  lines w0.254: -1.05,-19.25 -2.5,-19.25 -2.5,-18.85 -1.05,-18.85 ; -1.05,-16.71 -2.5,-16.71 -2.5,-16.31 -1.05,-16.31 ; -1.05,-14.17 -2.5,-14.17 -2.5,-13.77 -1.05,-13.77 ; -1.05,-11.63 -2.5,-11.63 -2.5,-11.23 -1.05,-11.23 ; -1.05,-9.09 -2.5,-9.09 -2.5,-8.69 -1.05,-8.69 ; -1.05,-6.55 -2.5,-6.55 -2.5,-6.15 -1.05,-6.15 ; -1.05,-4.01 -2.5,-4.01 -2.5,-3.61 -1.05,-3.61 ; -1.05,-1.47 -2.5,-1.47 -2.5,-1.07 -1.05,-1.07 ; -1.05,1.07 -2.5,1.07 -2.5,1.47 -1.05,1.47 ; -1.05,3.61 -2.5,3.61 -2.5,4.01 -1.05,4.01 ; -1.05,6.15 -2.5,6.15 -2.5,6.55 -1.05,6.55 ; -1.05,8.69 -2.5,8.69 -2.5,9.09 -1.05,9.09 ; -1.05,11.23 -2.5,11.23 -2.5,11.63 -1.05,11.63 ; -1.05,13.77 -2.5,13.77 -2.5,14.17 -1.05,14.17 ; -1.05,16.31 -2.5,16.31 -2.5,16.71 -1.05,16.71 ; -1.05,18.85 -2.5,18.85 -2.5,19.25 -1.05,19.25 ; 1.05,-17.98 2.5,-17.98 2.5,-17.58 1.05,-17.58 ; 1.05,-15.44 2.5,-15.44 2.5,-15.04 1.05,-15.04 ; 1.05,-12.9 2.5,-12.9 2.5,-12.5 1.05,-12.5 ; 1.05,-10.36 2.5,-10.36 2.5,-9.96 1.05,-9.96 ; 1.05,-7.82 2.5,-7.82 2.5,-7.42 1.05,-7.42 ; 1.05,-5.28 2.5,-5.28 2.5,-4.88 1.05,-4.88 ; 1.05,-2.74 2.5,-2.74 2.5,-2.34 1.05,-2.34 ; 1.05,-0.2 2.5,-0.2 2.5,0.2 1.05,0.2 ; 1.05,2.34 2.5,2.34 2.5,2.74 1.05,2.74 ; 1.05,4.88 2.5,4.88 2.5,5.28 1.05,5.28 ; 1.05,7.42 2.5,7.42 2.5,7.82 1.05,7.82 ; 1.05,9.96 2.5,9.96 2.5,10.36 1.05,10.36 ; 1.05,12.5 2.5,12.5 2.5,12.9 1.05,12.9 ; 1.05,15.04 2.5,15.04 2.5,15.44 1.05,15.44 ; 1.05,17.58 2.5,17.58 2.5,17.98 1.05,17.98 ; -1.05,19.25 -1.05,-19.685 1.05,-19.685 1.05,19.685 -0.615,19.685 -1.05,19.25
  text "'.Designator'" at 0.84,-4.047 h1
Top Courtyard:
  lines w0.254: -3.5,-20.19 3.5,-20.19 3.5,20.19 -3.5,20.19 -3.5,-20.19
Top Designator:
  text ".Designator" at -7.618,-0.508 h1.52

## PinHeader_1x31_P1.27mm_Vertical_SMD_Pin1Right [mm]
pads (31):
  rect 3x0.65 smd: 1(1.5,19.05) 2(-1.5,17.78) 3(1.5,16.51) 4(-1.5,15.24) 5(1.5,13.97) 6(-1.5,12.7) 7(1.5,11.43) 8(-1.5,10.16) 9(1.5,8.89) 10(-1.5,7.62) 11(1.5,6.35) 12(-1.5,5.08) 13(1.5,3.81) 14(-1.5,2.54) 15(1.5,1.27) 16(-1.5,0) 17(1.5,-1.27) 18(-1.5,-2.54) 19(1.5,-3.81) 20(-1.5,-5.08) 21(1.5,-6.35) 22(-1.5,-7.62) 23(1.5,-8.89) 24(-1.5,-10.16) 25(1.5,-11.43) 26(-1.5,-12.7) 27(1.5,-13.97) 28(-1.5,-15.24) 29(1.5,-16.51) 30(-1.5,-17.78) 31(1.5,-19.05)
F.SilkS:
  lines w0.254: -1.16,-19.685 -1.16,-19.795 ; -1.16,-18.415 -1.16,-19.795 ; -1.16,-17.145 -1.16,-15.875 ; -1.16,-14.605 -1.16,-13.335 ; -1.16,-12.065 -1.16,-10.795 ; -1.16,-9.525 -1.16,-8.255 ; -1.16,-6.985 -1.16,-5.715 ; -1.16,-4.445 -1.16,-3.175 ; -1.16,-1.905 -1.16,-0.635 ; -1.16,0.635 -1.16,1.905 ; -1.16,3.175 -1.16,4.445 ; -1.16,5.715 -1.16,6.985 ; -1.16,8.255 -1.16,9.525 ; -1.16,10.795 -1.16,12.065 ; -1.16,13.335 -1.16,14.605 ; -1.16,15.875 -1.16,17.145 ; -1.16,19.795 1.16,19.795 1.16,19.685 2.94,19.685 ; 1.16,-19.795 -1.16,-19.795 ; 1.16,-18.415 1.16,-17.145 ; 1.16,-15.875 1.16,-14.605 ; 1.16,-13.335 1.16,-12.065 ; 1.16,-10.795 1.16,-9.525 ; 1.16,-8.255 1.16,-6.985 ; 1.16,-5.715 1.16,-4.445 ; 1.16,-3.175 1.16,-1.905 ; 1.16,-0.635 1.16,0.635 ; 1.16,1.905 1.16,3.175 ; 1.16,4.445 1.16,5.715 ; 1.16,6.985 1.16,8.255 ; 1.16,9.525 1.16,10.795 ; 1.16,12.065 1.16,13.335 ; 1.16,14.605 1.16,15.875 ; 1.16,17.145 1.16,18.415 ; -1.16,18.415 -1.16,19.685 -1.16,18.415
Top Assembly:
  lines w0.254: -1.05,-17.98 -2.5,-17.98 -2.5,-17.58 -1.05,-17.58 ; -1.05,-15.44 -2.5,-15.44 -2.5,-15.04 -1.05,-15.04 ; -1.05,-12.9 -2.5,-12.9 -2.5,-12.5 -1.05,-12.5 ; -1.05,-10.36 -2.5,-10.36 -2.5,-9.96 -1.05,-9.96 ; -1.05,-7.82 -2.5,-7.82 -2.5,-7.42 -1.05,-7.42 ; -1.05,-5.28 -2.5,-5.28 -2.5,-4.88 -1.05,-4.88 ; -1.05,-2.74 -2.5,-2.74 -2.5,-2.34 -1.05,-2.34 ; -1.05,-0.2 -2.5,-0.2 -2.5,0.2 -1.05,0.2 ; -1.05,2.34 -2.5,2.34 -2.5,2.74 -1.05,2.74 ; -1.05,4.88 -2.5,4.88 -2.5,5.28 -1.05,5.28 ; -1.05,7.42 -2.5,7.42 -2.5,7.82 -1.05,7.82 ; -1.05,9.96 -2.5,9.96 -2.5,10.36 -1.05,10.36 ; -1.05,12.5 -2.5,12.5 -2.5,12.9 -1.05,12.9 ; -1.05,15.04 -2.5,15.04 -2.5,15.44 -1.05,15.44 ; -1.05,17.58 -2.5,17.58 -2.5,17.98 -1.05,17.98 ; 1.05,-19.25 2.5,-19.25 2.5,-18.85 1.05,-18.85 ; 1.05,-16.71 2.5,-16.71 2.5,-16.31 1.05,-16.31 ; 1.05,-14.17 2.5,-14.17 2.5,-13.77 1.05,-13.77 ; 1.05,-11.63 2.5,-11.63 2.5,-11.23 1.05,-11.23 ; 1.05,-9.09 2.5,-9.09 2.5,-8.69 1.05,-8.69 ; 1.05,-6.55 2.5,-6.55 2.5,-6.15 1.05,-6.15 ; 1.05,-4.01 2.5,-4.01 2.5,-3.61 1.05,-3.61 ; 1.05,-1.47 2.5,-1.47 2.5,-1.07 1.05,-1.07 ; 1.05,1.07 2.5,1.07 2.5,1.47 1.05,1.47 ; 1.05,3.61 2.5,3.61 2.5,4.01 1.05,4.01 ; 1.05,6.15 2.5,6.15 2.5,6.55 1.05,6.55 ; 1.05,8.69 2.5,8.69 2.5,9.09 1.05,9.09 ; 1.05,11.23 2.5,11.23 2.5,11.63 1.05,11.63 ; 1.05,13.77 2.5,13.77 2.5,14.17 1.05,14.17 ; 1.05,16.31 2.5,16.31 2.5,16.71 1.05,16.71 ; 1.05,18.85 2.5,18.85 2.5,19.25 1.05,19.25 ; 1.05,19.25 1.05,-19.685 -1.05,-19.685 -1.05,19.685 0.615,19.685 1.05,19.25
  text "'.Designator'" at 0.84,-4.047 h1
Top Courtyard:
  lines w0.254: -3.5,-20.19 3.5,-20.19 3.5,20.19 -3.5,20.19 -3.5,-20.19
Top Designator:
  text ".Designator" at -7.618,-0.508 h1.52

## PinHeader_1x32_P1.27mm_Horizontal [mm]
pads (32):
  rect 1x1 hole 0.65: 1(0,0)
  round 1 hole 0.65: 2(0,-1.27) 3(0,-2.54) 4(0,-3.81) 5(0,-5.08) 6(0,-6.35) 7(0,-7.62) 8(0,-8.89) 9(0,-10.16) 10(0,-11.43) 11(0,-12.7) 12(0,-13.97) 13(0,-15.24) 14(0,-16.51) 15(0,-17.78) 16(0,-19.05) 17(0,-20.32) 18(0,-21.59) 19(0,-22.86) 20(0,-24.13) 21(0,-25.4) 22(0,-26.67) 23(0,-27.94) 24(0,-29.21) 25(0,-30.48) 26(0,-31.75) 27(0,-33.02) 28(0,-34.29) 29(0,-35.56) 30(0,-36.83) 31(0,-38.1) 32(0,-39.37)
F.SilkS:
  lines w0.254: -0.81,0 -0.81,0.81 0,0.81 ; 0.39,-40.115 1.61,-40.115 1.61,0.745 0.39,0.745 ; 0.503,-38.735 1.61,-38.735 ; 0.503,-37.465 1.61,-37.465 ; 0.503,-36.195 1.61,-36.195 ; 0.503,-34.925 1.61,-34.925 ; 0.503,-33.655 1.61,-33.655 ; 0.503,-32.385 1.61,-32.385 ; 0.503,-31.115 1.61,-31.115 ; 0.503,-29.845 1.61,-29.845 ; 0.503,-28.575 1.61,-28.575 ; 0.503,-27.305 1.61,-27.305 ; 0.503,-26.035 1.61,-26.035 ; 0.503,-24.765 1.61,-24.765 ; 0.503,-23.495 1.61,-23.495 ; 0.503,-22.225 1.61,-22.225 ; 0.503,-20.955 1.61,-20.955 ; 0.503,-19.685 1.61,-19.685 ; 0.503,-18.415 1.61,-18.415 ; 0.503,-17.145 1.61,-17.145 ; 0.503,-15.875 1.61,-15.875 ; 0.503,-14.605 1.61,-14.605 ; 0.503,-13.335 1.61,-13.335 ; 0.503,-12.065 1.61,-12.065 ; 0.503,-10.795 1.61,-10.795 ; 0.503,-9.525 1.61,-9.525 ; 0.503,-8.255 1.61,-8.255 ; 0.503,-6.985 1.61,-6.985 ; 0.503,-5.715 1.61,-5.715 ; 0.503,-4.445 1.61,-4.445 ; 0.503,-3.175 1.61,-3.175 ; 0.503,-1.905 1.61,-1.905 ; 0.81,-0.635 1.61,-0.635 ; 1.61,-39.68 5.61,-39.68 5.61,-39.06 1.61,-39.06 ; 1.61,-38.41 5.61,-38.41 5.61,-37.79 1.61,-37.79 ; 1.61,-37.14 5.61,-37.14 5.61,-36.52 1.61,-36.52 ; 1.61,-35.87 5.61,-35.87 5.61,-35.25 1.61,-35.25 ; 1.61,-34.6 5.61,-34.6 5.61,-33.98 1.61,-33.98 ; 1.61,-33.33 5.61,-33.33 5.61,-32.71 1.61,-32.71 ; 1.61,-32.06 5.61,-32.06 5.61,-31.44 1.61,-31.44 ; 1.61,-30.79 5.61,-30.79 5.61,-30.17 1.61,-30.17 ; 1.61,-29.52 5.61,-29.52 5.61,-28.9 1.61,-28.9 ; 1.61,-28.25 5.61,-28.25 5.61,-27.63 1.61,-27.63 ; 1.61,-26.98 5.61,-26.98 5.61,-26.36 1.61,-26.36 ; 1.61,-25.71 5.61,-25.71 5.61,-25.09 1.61,-25.09 ; 1.61,-24.44 5.61,-24.44 5.61,-23.82 1.61,-23.82 ; 1.61,-23.17 5.61,-23.17 5.61,-22.55 1.61,-22.55 ; 1.61,-21.9 5.61,-21.9 5.61,-21.28 1.61,-21.28 ; 1.61,-20.63 5.61,-20.63 5.61,-20.01 1.61,-20.01 ; 1.61,-19.36 5.61,-19.36 5.61,-18.74 1.61,-18.74 ; 1.61,-18.09 5.61,-18.09 5.61,-17.47 1.61,-17.47 ; 1.61,-16.82 5.61,-16.82 5.61,-16.2 1.61,-16.2 ; 1.61,-15.55 5.61,-15.55 5.61,-14.93 1.61,-14.93 ; 1.61,-14.28 5.61,-14.28 5.61,-13.66 1.61,-13.66 ; 1.61,-13.01 5.61,-13.01 5.61,-12.39 1.61,-12.39 ; 1.61,-11.74 5.61,-11.74 5.61,-11.12 1.61,-11.12 ; 1.61,-10.47 5.61,-10.47 5.61,-9.85 1.61,-9.85 ; 1.61,-9.2 5.61,-9.2 5.61,-8.58 1.61,-8.58 ; 1.61,-7.93 5.61,-7.93 5.61,-7.31 1.61,-7.31 ; 1.61,-6.66 5.61,-6.66 5.61,-6.04 1.61,-6.04 ; 1.61,-5.39 5.61,-5.39 5.61,-4.77 1.61,-4.77 ; 1.61,-4.12 5.61,-4.12 5.61,-3.5 1.61,-3.5 ; 1.61,-2.85 5.61,-2.85 5.61,-2.23 1.61,-2.23 ; 1.61,-1.58 5.61,-1.58 5.61,-0.96 1.61,-0.96 ; 1.61,-0.31 5.61,-0.31 5.61,0.31 1.61,0.31 1.61,-0.31
Top Assembly:
  drawing of 197 lines, arcs and shapes, not listed
  text "'.Designator'" at 1.504,-22.113 h0.6
Top Courtyard:
  lines w0.254: -1.14,-40.51 6,-40.51 6,1.14 -1.14,1.14 -1.14,-40.51
Top Designator:
  text ".Designator" at -5.188,-20.193 h1.52

## PinHeader_1x32_P1.27mm_Vertical [mm]
pads (32):
  rect 1x1 hole 0.65: 1(0,0)
  round 1 hole 0.65: 2(0,-1.27) 3(0,-2.54) 4(0,-3.81) 5(0,-5.08) 6(0,-6.35) 7(0,-7.62) 8(0,-8.89) 9(0,-10.16) 10(0,-11.43) 11(0,-12.7) 12(0,-13.97) 13(0,-15.24) 14(0,-16.51) 15(0,-17.78) 16(0,-19.05) 17(0,-20.32) 18(0,-21.59) 19(0,-22.86) 20(0,-24.13) 21(0,-25.4) 22(0,-26.67) 23(0,-27.94) 24(0,-29.21) 25(0,-30.48) 26(0,-31.75) 27(0,-33.02) 28(0,-34.29) 29(0,-35.56) 30(0,-36.83) 31(0,-38.1) 32(0,-39.37)
F.SilkS:
  lines w0.254: -1.16,0 -1.16,0.81 0,0.81 ; -0.667,-0.81 -1.16,-0.81 -1.16,-40.115 -0.318,-40.115 ; 0.318,-40.115 1.16,-40.115 1.16,-0.81 0.667,-0.81
Top Assembly:
  lines w0.254: -1.05,-40.005 1.05,-40.005 1.05,0.635 -0.525,0.635 -1.05,0.11 -1.05,-40.005
  text "'.Designator'" at 0.84,-23.732 h1
Top Courtyard:
  lines w0.254: -1.55,-40.51 1.55,-40.51 1.55,1.14 -1.55,1.14 -1.55,-40.51
Top Designator:
  text ".Designator" at -7.618,-20.193 h1.52

## PinHeader_1x32_P1.27mm_Vertical_SMD_Pin1Left [mm]
pads (32):
  rect 3x0.65 smd: 1(-1.5,19.685) 2(1.5,18.415) 3(-1.5,17.145) 4(1.5,15.875) 5(-1.5,14.605) 6(1.5,13.335) 7(-1.5,12.065) 8(1.5,10.795) 9(-1.5,9.525) 10(1.5,8.255) 11(-1.5,6.985) 12(1.5,5.715) 13(-1.5,4.445) 14(1.5,3.175) 15(-1.5,1.905) 16(1.5,0.635) 17(-1.5,-0.635) 18(1.5,-1.905) 19(-1.5,-3.175) 20(1.5,-4.445) 21(-1.5,-5.715) 22(1.5,-6.985) 23(-1.5,-8.255) 24(1.5,-9.525) 25(-1.5,-10.795) 26(1.5,-12.065) 27(-1.5,-13.335) 28(1.5,-14.605) 29(-1.5,-15.875) 30(1.5,-17.145) 31(-1.5,-18.415) 32(1.5,-19.685)
F.SilkS:
  lines w0.254: -2.94,20.32 -1.16,20.32 -1.16,20.43 1.16,20.43 ; -1.16,-19.05 -1.16,-20.43 1.16,-20.43 1.16,-20.32 ; -1.16,-17.78 -1.16,-16.51 ; -1.16,-15.24 -1.16,-13.97 ; -1.16,-12.7 -1.16,-11.43 ; -1.16,-10.16 -1.16,-8.89 ; -1.16,-7.62 -1.16,-6.35 ; -1.16,-5.08 -1.16,-3.81 ; -1.16,-2.54 -1.16,-1.27 ; -1.16,0 -1.16,1.27 ; -1.16,2.54 -1.16,3.81 ; -1.16,5.08 -1.16,6.35 ; -1.16,7.62 -1.16,8.89 ; -1.16,10.16 -1.16,11.43 ; -1.16,12.7 -1.16,13.97 ; -1.16,15.24 -1.16,16.51 ; -1.16,17.78 -1.16,19.05 ; 1.16,-19.05 1.16,-17.78 ; 1.16,-16.51 1.16,-15.24 ; 1.16,-13.97 1.16,-12.7 ; 1.16,-11.43 1.16,-10.16 ; 1.16,-8.89 1.16,-7.62 ; 1.16,-6.35 1.16,-5.08 ; 1.16,-3.81 1.16,-2.54 ; 1.16,-1.27 1.16,0 ; 1.16,1.27 1.16,2.54 ; 1.16,3.81 1.16,5.08 ; 1.16,6.35 1.16,7.62 ; 1.16,8.89 1.16,10.16 ; 1.16,11.43 1.16,12.7 ; 1.16,13.97 1.16,15.24 ; 1.16,16.51 1.16,17.78 ; 1.16,19.05 1.16,20.32
Top Assembly:
  lines w0.254: -1.05,-18.615 -2.5,-18.615 -2.5,-18.215 -1.05,-18.215 ; -1.05,-16.075 -2.5,-16.075 -2.5,-15.675 -1.05,-15.675 ; -1.05,-13.535 -2.5,-13.535 -2.5,-13.135 -1.05,-13.135 ; -1.05,-10.995 -2.5,-10.995 -2.5,-10.595 -1.05,-10.595 ; -1.05,-8.455 -2.5,-8.455 -2.5,-8.055 -1.05,-8.055 ; -1.05,-5.915 -2.5,-5.915 -2.5,-5.515 -1.05,-5.515 ; -1.05,-3.375 -2.5,-3.375 -2.5,-2.975 -1.05,-2.975 ; -1.05,-0.835 -2.5,-0.835 -2.5,-0.435 -1.05,-0.435 ; -1.05,1.705 -2.5,1.705 -2.5,2.105 -1.05,2.105 ; -1.05,4.245 -2.5,4.245 -2.5,4.645 -1.05,4.645 ; -1.05,6.785 -2.5,6.785 -2.5,7.185 -1.05,7.185 ; -1.05,9.325 -2.5,9.325 -2.5,9.725 -1.05,9.725 ; -1.05,11.865 -2.5,11.865 -2.5,12.265 -1.05,12.265 ; -1.05,14.405 -2.5,14.405 -2.5,14.805 -1.05,14.805 ; -1.05,16.945 -2.5,16.945 -2.5,17.345 -1.05,17.345 ; -1.05,19.485 -2.5,19.485 -2.5,19.885 -1.05,19.885 ; 1.05,-19.885 2.5,-19.885 2.5,-19.485 1.05,-19.485 ; 1.05,-17.345 2.5,-17.345 2.5,-16.945 1.05,-16.945 ; 1.05,-14.805 2.5,-14.805 2.5,-14.405 1.05,-14.405 ; 1.05,-12.265 2.5,-12.265 2.5,-11.865 1.05,-11.865 ; 1.05,-9.725 2.5,-9.725 2.5,-9.325 1.05,-9.325 ; 1.05,-7.185 2.5,-7.185 2.5,-6.785 1.05,-6.785 ; 1.05,-4.645 2.5,-4.645 2.5,-4.245 1.05,-4.245 ; 1.05,-2.105 2.5,-2.105 2.5,-1.705 1.05,-1.705 ; 1.05,0.435 2.5,0.435 2.5,0.835 1.05,0.835 ; 1.05,2.975 2.5,2.975 2.5,3.375 1.05,3.375 ; 1.05,5.515 2.5,5.515 2.5,5.915 1.05,5.915 ; 1.05,8.055 2.5,8.055 2.5,8.455 1.05,8.455 ; 1.05,10.595 2.5,10.595 2.5,10.995 1.05,10.995 ; 1.05,13.135 2.5,13.135 2.5,13.535 1.05,13.535 ; 1.05,15.675 2.5,15.675 2.5,16.075 1.05,16.075 ; 1.05,18.215 2.5,18.215 2.5,18.615 1.05,18.615 ; -1.05,19.885 -1.05,-20.32 1.05,-20.32 1.05,20.32 -0.615,20.32 -1.05,19.885
  text "'.Designator'" at 0.84,-4.047 h1
Top Courtyard:
  lines w0.254: -3.5,-20.82 3.5,-20.82 3.5,20.82 -3.5,20.82 -3.5,-20.82
Top Designator:
  text ".Designator" at -7.618,-0.508 h1.52

## PinHeader_1x32_P1.27mm_Vertical_SMD_Pin1Right [mm]
pads (32):
  rect 3x0.65 smd: 1(1.5,19.685) 2(-1.5,18.415) 3(1.5,17.145) 4(-1.5,15.875) 5(1.5,14.605) 6(-1.5,13.335) 7(1.5,12.065) 8(-1.5,10.795) 9(1.5,9.525) 10(-1.5,8.255) 11(1.5,6.985) 12(-1.5,5.715) 13(1.5,4.445) 14(-1.5,3.175) 15(1.5,1.905) 16(-1.5,0.635) 17(1.5,-0.635) 18(-1.5,-1.905) 19(1.5,-3.175) 20(-1.5,-4.445) 21(1.5,-5.715) 22(-1.5,-6.985) 23(1.5,-8.255) 24(-1.5,-9.525) 25(1.5,-10.795) 26(-1.5,-12.065) 27(1.5,-13.335) 28(-1.5,-14.605) 29(1.5,-15.875) 30(-1.5,-17.145) 31(1.5,-18.415) 32(-1.5,-19.685)
F.SilkS:
  lines w0.254: -1.16,-20.32 -1.16,-20.43 1.16,-20.43 1.16,-19.05 ; -1.16,-19.05 -1.16,-17.78 ; -1.16,-16.51 -1.16,-15.24 ; -1.16,-13.97 -1.16,-12.7 ; -1.16,-11.43 -1.16,-10.16 ; -1.16,-8.89 -1.16,-7.62 ; -1.16,-6.35 -1.16,-5.08 ; -1.16,-3.81 -1.16,-2.54 ; -1.16,-1.27 -1.16,0 ; -1.16,1.27 -1.16,2.54 ; -1.16,3.81 -1.16,5.08 ; -1.16,6.35 -1.16,7.62 ; -1.16,8.89 -1.16,10.16 ; -1.16,11.43 -1.16,12.7 ; -1.16,13.97 -1.16,15.24 ; -1.16,16.51 -1.16,17.78 ; -1.16,20.43 1.16,20.43 1.16,20.32 2.94,20.32 ; 1.16,-17.78 1.16,-16.51 ; 1.16,-15.24 1.16,-13.97 ; 1.16,-12.7 1.16,-11.43 ; 1.16,-10.16 1.16,-8.89 ; 1.16,-7.62 1.16,-6.35 ; 1.16,-5.08 1.16,-3.81 ; 1.16,-2.54 1.16,-1.27 ; 1.16,0 1.16,1.27 ; 1.16,2.54 1.16,3.81 ; 1.16,5.08 1.16,6.35 ; 1.16,7.62 1.16,8.89 ; 1.16,10.16 1.16,11.43 ; 1.16,12.7 1.16,13.97 ; 1.16,15.24 1.16,16.51 ; 1.16,17.78 1.16,19.05 ; -1.16,19.05 -1.16,20.32 -1.16,19.05
Top Assembly:
  lines w0.254: -1.05,-19.885 -2.5,-19.885 -2.5,-19.485 -1.05,-19.485 ; -1.05,-17.345 -2.5,-17.345 -2.5,-16.945 -1.05,-16.945 ; -1.05,-14.805 -2.5,-14.805 -2.5,-14.405 -1.05,-14.405 ; -1.05,-12.265 -2.5,-12.265 -2.5,-11.865 -1.05,-11.865 ; -1.05,-9.725 -2.5,-9.725 -2.5,-9.325 -1.05,-9.325 ; -1.05,-7.185 -2.5,-7.185 -2.5,-6.785 -1.05,-6.785 ; -1.05,-4.645 -2.5,-4.645 -2.5,-4.245 -1.05,-4.245 ; -1.05,-2.105 -2.5,-2.105 -2.5,-1.705 -1.05,-1.705 ; -1.05,0.435 -2.5,0.435 -2.5,0.835 -1.05,0.835 ; -1.05,2.975 -2.5,2.975 -2.5,3.375 -1.05,3.375 ; -1.05,5.515 -2.5,5.515 -2.5,5.915 -1.05,5.915 ; -1.05,8.055 -2.5,8.055 -2.5,8.455 -1.05,8.455 ; -1.05,10.595 -2.5,10.595 -2.5,10.995 -1.05,10.995 ; -1.05,13.135 -2.5,13.135 -2.5,13.535 -1.05,13.535 ; -1.05,15.675 -2.5,15.675 -2.5,16.075 -1.05,16.075 ; -1.05,18.215 -2.5,18.215 -2.5,18.615 -1.05,18.615 ; 1.05,-18.615 2.5,-18.615 2.5,-18.215 1.05,-18.215 ; 1.05,-16.075 2.5,-16.075 2.5,-15.675 1.05,-15.675 ; 1.05,-13.535 2.5,-13.535 2.5,-13.135 1.05,-13.135 ; 1.05,-10.995 2.5,-10.995 2.5,-10.595 1.05,-10.595 ; 1.05,-8.455 2.5,-8.455 2.5,-8.055 1.05,-8.055 ; 1.05,-5.915 2.5,-5.915 2.5,-5.515 1.05,-5.515 ; 1.05,-3.375 2.5,-3.375 2.5,-2.975 1.05,-2.975 ; 1.05,-0.835 2.5,-0.835 2.5,-0.435 1.05,-0.435 ; 1.05,1.705 2.5,1.705 2.5,2.105 1.05,2.105 ; 1.05,4.245 2.5,4.245 2.5,4.645 1.05,4.645 ; 1.05,6.785 2.5,6.785 2.5,7.185 1.05,7.185 ; 1.05,9.325 2.5,9.325 2.5,9.725 1.05,9.725 ; 1.05,11.865 2.5,11.865 2.5,12.265 1.05,12.265 ; 1.05,14.405 2.5,14.405 2.5,14.805 1.05,14.805 ; 1.05,16.945 2.5,16.945 2.5,17.345 1.05,17.345 ; 1.05,19.485 2.5,19.485 2.5,19.885 1.05,19.885 ; 1.05,19.885 1.05,-20.32 -1.05,-20.32 -1.05,20.32 0.615,20.32 1.05,19.885
  text "'.Designator'" at 0.84,-4.047 h1
Top Courtyard:
  lines w0.254: -3.5,-20.82 3.5,-20.82 3.5,20.82 -3.5,20.82 -3.5,-20.82
Top Designator:
  text ".Designator" at -7.618,-0.508 h1.52

## PinHeader_1x33_P1.27mm_Horizontal [mm]
pads (33):
  rect 1x1 hole 0.65: 1(0,0)
  round 1 hole 0.65: 2(0,-1.27) 3(0,-2.54) 4(0,-3.81) 5(0,-5.08) 6(0,-6.35) 7(0,-7.62) 8(0,-8.89) 9(0,-10.16) 10(0,-11.43) 11(0,-12.7) 12(0,-13.97) 13(0,-15.24) 14(0,-16.51) 15(0,-17.78) 16(0,-19.05) 17(0,-20.32) 18(0,-21.59) 19(0,-22.86) 20(0,-24.13) 21(0,-25.4) 22(0,-26.67) 23(0,-27.94) 24(0,-29.21) 25(0,-30.48) 26(0,-31.75) 27(0,-33.02) 28(0,-34.29) 29(0,-35.56) 30(0,-36.83) 31(0,-38.1) 32(0,-39.37) 33(0,-40.64)
F.SilkS:
  lines w0.254: -0.81,0 -0.81,0.81 0,0.81 ; 0.39,-41.385 1.61,-41.385 1.61,0.745 0.39,0.745 ; 0.503,-40.005 1.61,-40.005 ; 0.503,-38.735 1.61,-38.735 ; 0.503,-37.465 1.61,-37.465 ; 0.503,-36.195 1.61,-36.195 ; 0.503,-34.925 1.61,-34.925 ; 0.503,-33.655 1.61,-33.655 ; 0.503,-32.385 1.61,-32.385 ; 0.503,-31.115 1.61,-31.115 ; 0.503,-29.845 1.61,-29.845 ; 0.503,-28.575 1.61,-28.575 ; 0.503,-27.305 1.61,-27.305 ; 0.503,-26.035 1.61,-26.035 ; 0.503,-24.765 1.61,-24.765 ; 0.503,-23.495 1.61,-23.495 ; 0.503,-22.225 1.61,-22.225 ; 0.503,-20.955 1.61,-20.955 ; 0.503,-19.685 1.61,-19.685 ; 0.503,-18.415 1.61,-18.415 ; 0.503,-17.145 1.61,-17.145 ; 0.503,-15.875 1.61,-15.875 ; 0.503,-14.605 1.61,-14.605 ; 0.503,-13.335 1.61,-13.335 ; 0.503,-12.065 1.61,-12.065 ; 0.503,-10.795 1.61,-10.795 ; 0.503,-9.525 1.61,-9.525 ; 0.503,-8.255 1.61,-8.255 ; 0.503,-6.985 1.61,-6.985 ; 0.503,-5.715 1.61,-5.715 ; 0.503,-4.445 1.61,-4.445 ; 0.503,-3.175 1.61,-3.175 ; 0.503,-1.905 1.61,-1.905 ; 0.81,-0.635 1.61,-0.635 ; 1.61,-40.95 5.61,-40.95 5.61,-40.33 1.61,-40.33 ; 1.61,-39.68 5.61,-39.68 5.61,-39.06 1.61,-39.06 ; 1.61,-38.41 5.61,-38.41 5.61,-37.79 1.61,-37.79 ; 1.61,-37.14 5.61,-37.14 5.61,-36.52 1.61,-36.52 ; 1.61,-35.87 5.61,-35.87 5.61,-35.25 1.61,-35.25 ; 1.61,-34.6 5.61,-34.6 5.61,-33.98 1.61,-33.98 ; 1.61,-33.33 5.61,-33.33 5.61,-32.71 1.61,-32.71 ; 1.61,-32.06 5.61,-32.06 5.61,-31.44 1.61,-31.44 ; 1.61,-30.79 5.61,-30.79 5.61,-30.17 1.61,-30.17 ; 1.61,-29.52 5.61,-29.52 5.61,-28.9 1.61,-28.9 ; 1.61,-28.25 5.61,-28.25 5.61,-27.63 1.61,-27.63 ; 1.61,-26.98 5.61,-26.98 5.61,-26.36 1.61,-26.36 ; 1.61,-25.71 5.61,-25.71 5.61,-25.09 1.61,-25.09 ; 1.61,-24.44 5.61,-24.44 5.61,-23.82 1.61,-23.82 ; 1.61,-23.17 5.61,-23.17 5.61,-22.55 1.61,-22.55 ; 1.61,-21.9 5.61,-21.9 5.61,-21.28 1.61,-21.28 ; 1.61,-20.63 5.61,-20.63 5.61,-20.01 1.61,-20.01 ; 1.61,-19.36 5.61,-19.36 5.61,-18.74 1.61,-18.74 ; 1.61,-18.09 5.61,-18.09 5.61,-17.47 1.61,-17.47 ; 1.61,-16.82 5.61,-16.82 5.61,-16.2 1.61,-16.2 ; 1.61,-15.55 5.61,-15.55 5.61,-14.93 1.61,-14.93 ; 1.61,-14.28 5.61,-14.28 5.61,-13.66 1.61,-13.66 ; 1.61,-13.01 5.61,-13.01 5.61,-12.39 1.61,-12.39 ; 1.61,-11.74 5.61,-11.74 5.61,-11.12 1.61,-11.12 ; 1.61,-10.47 5.61,-10.47 5.61,-9.85 1.61,-9.85 ; 1.61,-9.2 5.61,-9.2 5.61,-8.58 1.61,-8.58 ; 1.61,-7.93 5.61,-7.93 5.61,-7.31 1.61,-7.31 ; 1.61,-6.66 5.61,-6.66 5.61,-6.04 1.61,-6.04 ; 1.61,-5.39 5.61,-5.39 5.61,-4.77 1.61,-4.77 ; 1.61,-4.12 5.61,-4.12 5.61,-3.5 1.61,-3.5 ; 1.61,-2.85 5.61,-2.85 5.61,-2.23 1.61,-2.23 ; 1.61,-1.58 5.61,-1.58 5.61,-0.96 1.61,-0.96 ; 1.61,-0.31 5.61,-0.31 5.61,0.31 1.61,0.31 1.61,-0.31
Top Assembly:
  drawing of 203 lines, arcs and shapes, not listed
  text "'.Designator'" at 1.504,-22.748 h0.6
Top Courtyard:
  lines w0.254: -1.14,-41.78 6,-41.78 6,1.14 -1.14,1.14 -1.14,-41.78
Top Designator:
  text ".Designator" at -5.188,-20.828 h1.52

## PinHeader_1x33_P1.27mm_Vertical [mm]
pads (33):
  rect 1x1 hole 0.65: 1(0,0)
  round 1 hole 0.65: 2(0,-1.27) 3(0,-2.54) 4(0,-3.81) 5(0,-5.08) 6(0,-6.35) 7(0,-7.62) 8(0,-8.89) 9(0,-10.16) 10(0,-11.43) 11(0,-12.7) 12(0,-13.97) 13(0,-15.24) 14(0,-16.51) 15(0,-17.78) 16(0,-19.05) 17(0,-20.32) 18(0,-21.59) 19(0,-22.86) 20(0,-24.13) 21(0,-25.4) 22(0,-26.67) 23(0,-27.94) 24(0,-29.21) 25(0,-30.48) 26(0,-31.75) 27(0,-33.02) 28(0,-34.29) 29(0,-35.56) 30(0,-36.83) 31(0,-38.1) 32(0,-39.37) 33(0,-40.64)
F.SilkS:
  lines w0.254: -1.16,0 -1.16,0.81 0,0.81 ; -0.667,-0.81 -1.16,-0.81 -1.16,-41.385 -0.318,-41.385 ; 0.318,-41.385 1.16,-41.385 1.16,-0.81 0.667,-0.81
Top Assembly:
  lines w0.254: -1.05,-41.275 1.05,-41.275 1.05,0.635 -0.525,0.635 -1.05,0.11 -1.05,-41.275
  text "'.Designator'" at 0.84,-24.367 h1
Top Courtyard:
  lines w0.254: -1.55,-41.78 1.55,-41.78 1.55,1.14 -1.55,1.14 -1.55,-41.78
Top Designator:
  text ".Designator" at -7.618,-20.828 h1.52